# EAGLE library part A4988SETTR-T (library IC_Power-Management)
DMOS Microstepping Driver with Translator and Overcurrent Protection Datasheet <https://www.allegromicro.com/~/media/Files/Datasheets/A4988-Datasheet.ashx>
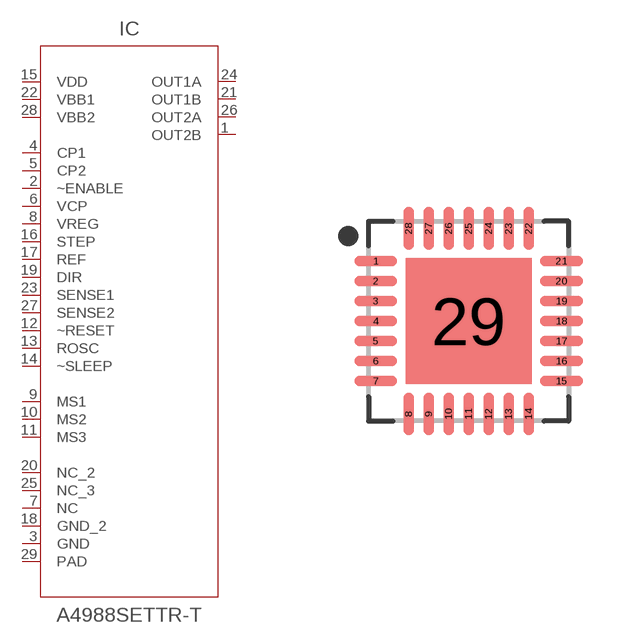
[diagram p11: symbol with the pads of QFN50P500X500X100-29T315N; footprint QFN50P500X500X100-29T315N]

Designator prefix IC

## A4988SETTR-TET (CATEGORY: IC_Power-Management; MANUFACTURER: Allegro MicroSystems; MPN: A4988SETTR-T; OPERATING_TEMP: –20 to +85 ºC; PART_STATUS: Active; ROHS_COMPLIANT: RoHS3 Compliant; SUB-CATEGORY: Driver)  [QFN50P500X500X100-29T315N]
1  OUT2B  out
2  ~ENABLE  in
3  GND  pas
4  CP1  pas
5  CP2  pas
6  VCP  pas
7  NC  nc
8  VREG  pas
9  MS1  in
10  MS2  in
11  MS3  in
12  ~RESET  in
13  ROSC  in
14  ~SLEEP  in
15  VDD  pwr
16  STEP  in
17  REF  in
18  GND_2  pas
19  DIR  in
20  NC_2  nc
21  OUT1B  out
22  VBB1  pwr
23  SENSE1  in
24  OUT1A  out
25  NC_3  nc
26  OUT2A  out
27  SENSE2  in
28  VBB2  pwr
29  PAD  pas

## Footprint QFN50P500X500X100-29T315N (pad centres in mm)
28-QFN, 0.50 mm pitch, 5.00 X 5.00 X 1.00 mm body, 3.15 X 3.15 mm thermal pad 28-pin QFN package with 0.50 mm pitch with body size 5.00 X 5.00 X 1.00 mm and thermal pad size 3.15 X 3.15 mm
smd 1.069 x 0.264: 1 -2.321,1.5; 2 -2.321,1; 3 -2.321,0.5; 4 -2.321,0; 5 -2.321,-0.5; 6 -2.321,-1; 7 -2.321,-1.5; 15 2.321,-1.5; 16 2.321,-1; 17 2.321,-0.5; 18 2.321,0; 19 2.321,0.5; 20 2.321,1; 21 2.321,1.5
smd 0.264 x 1.069: 8 -1.5,-2.321; 9 -1,-2.321; 10 -0.5,-2.321; 11 0,-2.321; 12 0.5,-2.321; 13 1,-2.321; 14 1.5,-2.321; 22 1.5,2.321; 23 1,2.321; 24 0.5,2.321; 25 0,2.321; 26 -0.5,2.321; 27 -1,2.321; 28 -1.5,2.321
smd 3.15 x 3.15: 29 0,0